# Altium footprint library diode.PCBLIB: 206 footprints (part 5 of 13)
Each footprint in its own frame and in the unit in brackets; x right, y up, seen from the top. Pads: shape width x height; smd on the part's side, far side on the other; paste and mask are expansions set on the pad; w line width, h text height; cw(c..) or ccw(c..) is an arc to the next point about the centre after c.
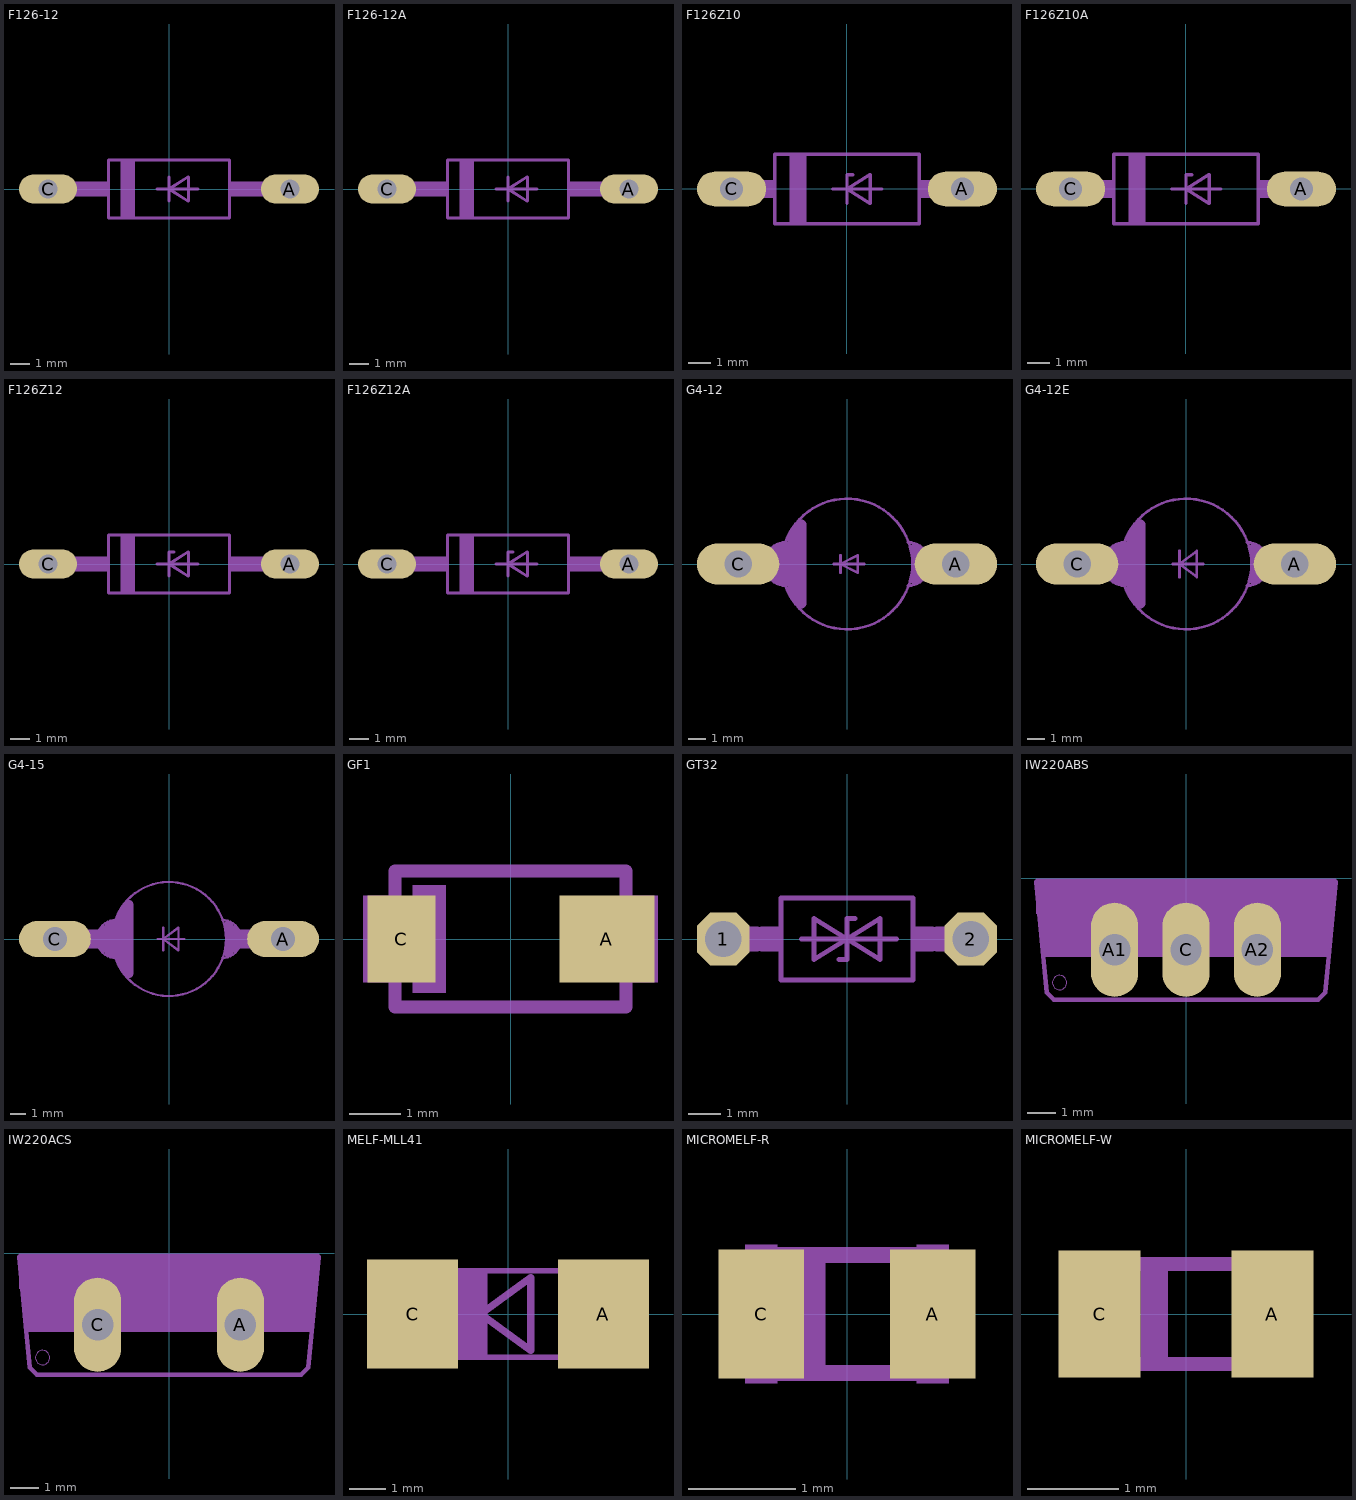
[diagram p4: the footprints below, top view; thin cyan lines are the x and y axes]

## F126-12 [mil]
pads (2):
  oval 120x60 hole 40: A(250,0) C(-250,0)
Mechanical 2:
  rectangle: -100,-60 -70,60
  rectangle: -191,-16 -125,16
  rectangle: 125,-16 191,16
  lines w6: -25,0 0,0 ; 0,-25 0,0 ; 0,25 0,0 ; 60,0 0,0 ; 0,0 40,-25 40,25 0,0 ; -125,-60 125,-60 125,60 -125,60 -125,-60
Mechanical 18:
  lines w32: -250,0 -190,0 ; 190,0 250,0

## F126-12A [mil]
pads (2):
  oval 120x60 hole 40: A(250,0) C(-250,0)
Mechanical 2:
  rectangle: -100,-60 -70,60
  rectangle: -191,-16 -125,16
  rectangle: 125,-16 191,16
  lines w6: -25,0 0,0 ; 0,-25 0,0 ; 0,25 0,0 ; 60,0 0,0 ; 0,0 40,-25 40,25 0,0 ; -125,-60 125,-60 125,60 -125,60 -125,-60
Mechanical 18:
  lines w32: -250,0 -190,0 ; 190,0 250,0

## F126Z10 [mil]
pads (2):
  oval 120x60 hole 40: A(200,0) C(-200,0)
Mechanical 2:
  rectangle: -100,-60 -70,60
  rectangle: 125,-16 147,16
  rectangle: -147,-16 -125,16
  lines w6: -25,0 0,0 ; 0,-25 0,0 ; 10,25 0,25 0,0 ; 60,0 0,0 ; 0,0 40,-25 40,25 0,0 ; -125,-60 125,-60 125,60 -125,60 -125,-60
Mechanical 18:
  lines w32: -200,0 -150,0 ; 150,0 200,0

## F126Z10A [mil]
pads (2):
  oval 120x60 hole 40: A(200,0) C(-200,0)
Mechanical 2:
  rectangle: -100,-60 -70,60
  rectangle: 125,-16 147,16
  rectangle: -147,-16 -125,16
  lines w6: -25,0 0,0 ; 0,-25 0,0 ; 10,25 0,25 0,0 ; 60,0 0,0 ; 0,0 40,-25 40,25 0,0 ; -125,-60 125,-60 125,60 -125,60 -125,-60
Mechanical 18:
  lines w32: -200,0 -150,0 ; 150,0 200,0

## F126Z12 [mil]
pads (2):
  oval 120x60 hole 40: A(250,0) C(-250,0)
Mechanical 2:
  rectangle: -100,-60 -70,60
  rectangle: -191,-16 -125,16
  rectangle: 125,-16 191,16
  lines w6: -25,0 0,0 ; 0,-25 0,0 ; 10,25 0,25 0,0 ; 60,0 0,0 ; 0,0 40,-25 40,25 0,0 ; -125,-60 125,-60 125,60 -125,60 -125,-60
Mechanical 18:
  lines w32: -250,0 -190,0 ; 190,0 250,0

## F126Z12A [mil]
pads (2):
  oval 120x60 hole 40: A(250,0) C(-250,0)
Mechanical 2:
  rectangle: -100,-60 -70,60
  rectangle: -191,-16 -125,16
  rectangle: 125,-16 191,16
  lines w6: -25,0 0,0 ; 0,-25 0,0 ; 10,25 0,25 0,0 ; 60,0 0,0 ; 0,0 40,-25 40,25 0,0 ; -125,-60 125,-60 125,60 -125,60 -125,-60
Mechanical 18:
  lines w32: -250,0 -190,0 ; 190,0 250,0

## G4-12 [mil]
pads (2):
  oval 189x94.5 hole 63: A(250,0) C(-250,0)
Mechanical 2:
  circle w6: c0,0 r150
  rectangle: 150,-25 195,25
  rectangle: -195,-25 -150,25
  lines w6: -140,-50 cw(c-140,0) -140,50 ; -30,0 -15,0 ; -15,-20 -15,0 ; -15,20 -15,0 ; 40,0 -15,0 ; 140,-50 ccw(c140,0) 140,50 ; -15,0 25,-20 25,20 -15,0
  lines w24: -170,-20 -155,-35 ; -170,20 -155,35 ; -140,-40 -140,40 ; -115,-80 -125,-60 -125,60 -115,80 ; -105,-90 -105,90 ; 155,-35 170,-20 ; 155,35 170,20
Mechanical 18:
  lines w50: -250,0 -200,0 ; 200,0 250,0

## G4-12E [mil]
pads (2):
  oval 189x94.5 hole 63: A(250,0) C(-250,0)
Mechanical 2:
  circle w6: c0,0 r150
  rectangle: 150,-25 195,25
  rectangle: -195,-25 -150,25
  lines w6: -140,-50 cw(c-140,0) -140,50 ; -30,0 -15,0 ; -15,-30 -15,0 ; -15,30 -15,0 ; 40,0 -15,0 ; 140,-50 ccw(c140,0) 140,50 ; -15,0 25,-30 25,30 -15,0
  lines w24: -170,-20 -155,-35 ; -170,20 -155,35 ; -140,-40 -140,40 ; -115,-80 -125,-60 -125,60 -115,80 ; -105,-90 -105,90 ; 155,-35 170,-20 ; 155,35 170,20
Mechanical 18:
  lines w50: -250,0 -200,0 ; 200,0 250,0

## G4-15 [mil]
pads (2):
  oval 189x94.5 hole 63: A(300,0) C(-300,0)
Mechanical 2:
  circle w6: c0,0 r150
  rectangle: 150,-25 230,25
  rectangle: -230,-25 -150,25
  lines w6: -140,-50 cw(c-140,0) -140,50 ; -30,0 -15,0 ; -15,-30 -15,0 ; -15,30 -15,0 ; 40,0 -15,0 ; 140,-50 ccw(c140,0) 140,50 ; -15,0 25,-30 25,30 -15,0
  lines w24: -170,-20 -155,-35 ; -170,20 -155,35 ; -140,-40 -140,40 ; -115,-80 -125,-60 -125,60 -115,80 ; -105,-90 -105,90 ; 155,-35 170,-20 ; 155,35 170,20
Mechanical 18:
  lines w50: -300,0 -225,0 ; 225,0 300,0

## GF1 [mil]
pads (2):
  rect 72.83x66.14 smd: A(73.62,0)
  rect 51.97x66.14 smd: C(-83.46,0)
Mechanical 2:
  rectangle: -55.12,-41.34 -49.21,41.34
  lines w10: -88.19,-51.97 88.19,-51.97 88.19,51.97 -88.19,51.97 -88.19,-51.97
Mechanical 18:
  rectangle: -112.6,-33.07 -91.34,33.07
  rectangle: 92.13,-33.07 112.6,33.07
  rectangle: -74.8,-41.34 -49.21,41.34

## GT32 [mil]
pads (2):
  oct 63.9x63.9 hole 44: 1(-150,0) 2(150,0)
Mechanical 2:
  rectangle: 80,-15 105,15
  rectangle: -105,-15 -80,15
  lines w6: -55,0 0,0 ; -10,-25 0,-25 0,0 ; 10,25 0,25 0,0 ; 60,0 0,0 ; 0,0 40,-25 40,25 0,0 ; 0,0 -40,25 -40,-25 0,0 ; -80,-50 80,-50 80,50 -80,50 -80,-50
Mechanical 18:
  lines w30: -150,0 -110,0 ; 110,0 150,0

## IW220ABS [mil]
pads (3):
  oval 66x132 hole 44: A1(-100,-100) A2(100,-100) C(0,-100)
Mechanical 2:
  circle w0: c-177,-146 r10
  rectangle: -210,-30 210,0
  rectangle: -210,-50 -135,-30
  rectangle: 135,-50 205,-30
  rectangle: 200,-75 205,-50
  rectangle: -205,-75 -200,-50
  rectangle: 135,-110 200,-50
  rectangle: 35,-110 65,-30
  rectangle: -65,-110 -35,-30
  rectangle: -200,-110 -135,-50
  lines w6: -210,-5 -195,-160 -185,-170 185,-170 195,-160 210,-5
Mechanical 18:
  rectangle: 65,-110 135,-30
  rectangle: -35,-110 35,-30
  rectangle: -135,-110 -65,-30

## IW220ACS [mil]
pads (2):
  oval 66x132 hole 44: A(100,-100) C(-100,-100)
Mechanical 2:
  circle w0: c-177,-146 r10
  rectangle: -210,-30 210,0
  rectangle: -210,-50 -135,-30
  rectangle: -65,-50 65,-30
  rectangle: 155,-110 200,-50
  rectangle: 135,-50 205,-30
  rectangle: 200,-75 205,-50
  rectangle: -45,-110 45,-50
  rectangle: -200,-110 -155,-50
  rectangle: -205,-75 -200,-50
  lines w6: -210,-5 -195,-160 -185,-170 185,-170 195,-160 210,-5
Mechanical 18:
  rectangle: -135,-50 -65,-30
  rectangle: 65,-50 135,-30
  rectangle: 45,-110 155,-50
  rectangle: -155,-110 -45,-50

## MELF-MLL41 [mm]
pads (2):
  rect 2.5x3 smd: A(2.625,0) C(-2.625,0)
Mechanical 2:
  lines w0.152: -1.097,1.194 1.121,1.194 ; -1.072,-1.194 1.121,-1.194
  lines w0.203: -0.746,0 0.627,1 0.627,-1 -0.746,0
Mechanical 18:
  rectangle: 2.057,-1.27 2.565,1.27
  rectangle: -2.616,-1.27 -2.108,1.27
  rectangle: -1.448,-1.194 -0.559,1.194
  lines w0.152: -2.159,1.194 2.083,1.194 ; -2.134,-1.194 2.083,-1.194

## MICROMELF-R [mil]
pads (2):
  rect 31.5x47.24 smd: A(31.5,0) C(-31.5,0)
Mechanical 18:
  rectangle: -37.4,-25.59 -25.59,25.59
  rectangle: 25.59,-25.59 37.4,25.59
  rectangle: -19.69,-21.65 -7.87,21.65
  lines w6: -25.59,-21.65 25.59,-21.65 ; -25.59,21.65 25.59,21.65

## MICROMELF-W [mil]
pads (2):
  rect 35.43x55.12 smd: A(37.4,0) C(-37.4,0)
Mechanical 18:
  rectangle: -37.4,-25.59 -25.59,25.59
  rectangle: 25.59,-25.59 37.4,25.59
  rectangle: -19.69,-19.69 -7.87,21.65
  lines w6: -25.59,-21.65 25.59,-21.65 ; -25.59,21.65 25.59,21.65